# Altium footprint library C SMD .PcbLib: 37 footprints (part 1 of 3)
Each footprint in its own frame and in the unit in brackets; x right, y up, seen from the top. Pads: shape width x height; smd on the part's side, far side on the other; paste and mask are expansions set on the pad; w line width, h text height; cw(c..) or ccw(c..) is an arc to the next point about the centre after c.
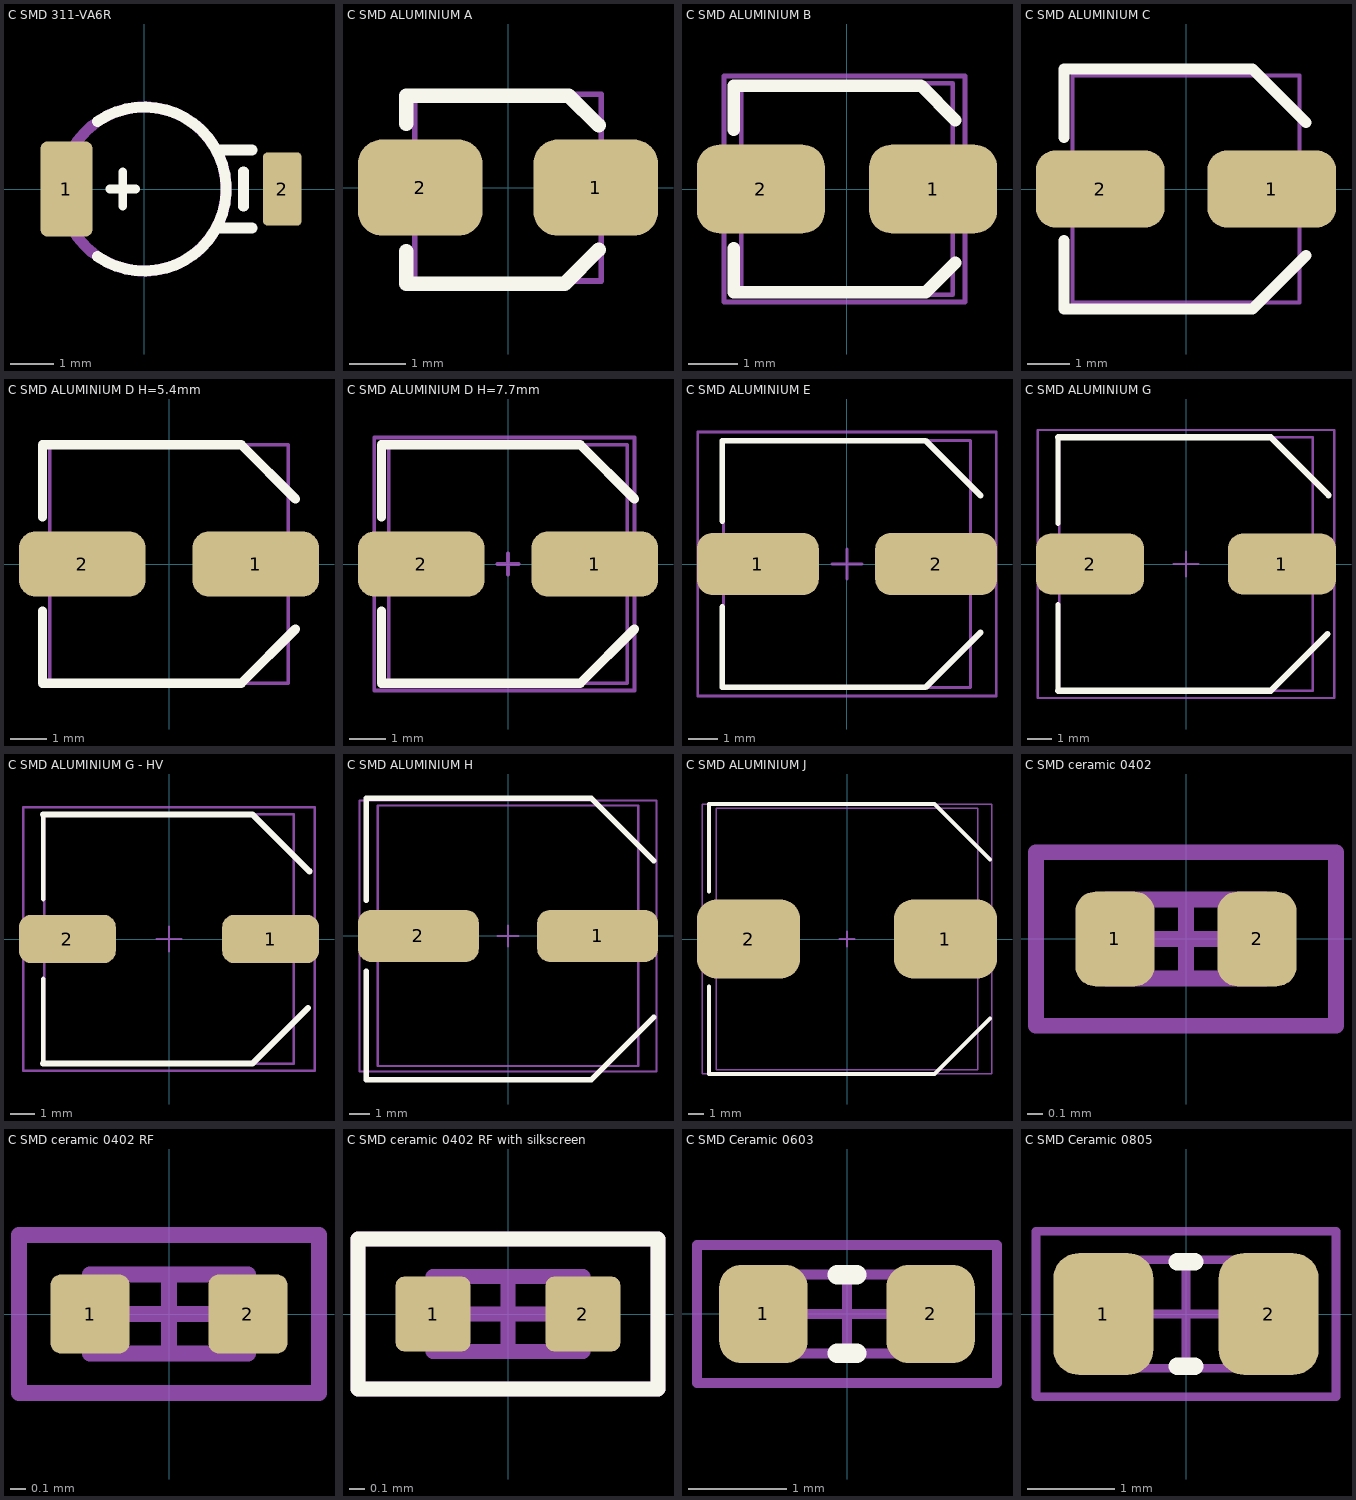
[diagram p0: the footprints below, top view; thin cyan lines are the x and y axes]

## C SMD 311-VA6R [mm] "Super Capacitor"
height 1.45
pads (2):
  rrect25% 1.2x2.2 smd: 1(-1.8,0)
  rrect25% 0.9x1.7 smd: 2(3.2,0)
Top Overlay:
  lines w0.2: -0.8,0 -0.2,0 ; -0.5,-0.4 -0.5,0 -0.5,0.4
  lines w0.254: -1.076,-1.566 ccw(c0,0) -1.076,1.566 ; 1.7,-0.9 2.5,-0.9 ; 1.7,0.9 2.5,0.9 ; 2.3,-0.4 2.3,0.4
Mechanical 15:
  circle w0.254: c0,0 r1.9
3D body: height 1.5, standoff 0, extent -2.2,-1.9 3.5,1.9

## C SMD ALUMINIUM A [mm] "Chip Capacitor, 2-Leads, Body 3,3x3,3mm"
height 5.4
pads (2):
  rrect50% 2.2x1.7 smd: 1(1.55,0) 2(-1.55,0)
Top Overlay:
  lines w0.254: -1.8,-1.125 -1.8,-1.7 1,-1.7 1.6,-1.1 ; -1.8,1.125 -1.8,1.625 1.075,1.625 ; 1.6,1.1 1.075,1.625 ; 1.075,1.625 1,1.625 1.075,1.625
Mechanical 13:
  lines w0.1: -1.65,-1.65 1.65,-1.65 1.65,1.65 -1.65,1.65 -1.65,-1.65
3D body: height 5.4, standoff 0, extent -1.8,-1.7 1.8,1.6

## C SMD ALUMINIUM B [mm] "Chip Capacitor, 2-Leads, Body 4,3x4,3mm"
height 6
pads (2):
  rrect50% 2.6x1.8 smd: 1(1.75,0) 2(-1.75,0)
Top Overlay:
  lines w0.254: -2.3,-1.2 -2.3,-2.1 1.6,-2.1 2.2,-1.5 ; -2.3,1.2 -2.3,2.1 1.5,2.1 2.2,1.4
Mechanical 13:
  lines w0.1: -2.15,-2.15 -2.15,2.15 2.15,2.15 2.15,-2.15 -2.15,-2.15
Mechanical 15:
  lines w0.1: -2.5,-2.3 2.4,-2.3 2.4,2.3 -2.5,2.3 -2.5,-2.3
3D body: height 5.4, standoff 0, extent -2.3,-2.15 2.3,2.15

## C SMD ALUMINIUM C [mm] "Chip Capacitor, 2-Leads, Body 5x5mm"
height 6
pads (2):
  rrect50% 3x1.8 smd: 1(2,0) 2(-2,0)
Top Overlay:
  lines w0.254: -2.85,-1.2 -2.85,-2.8 1.55,-2.8 2.8,-1.55 ; -2.85,1.2 -2.85,2.8 1.55,2.8 2.8,1.55
Mechanical 13:
  lines w0.1: -2.65,-2.65 -2.65,2.65 2.65,2.65 2.65,-2.65 -2.65,-2.65
3D body: height 5.41, standoff 0, extent -2.975,-2.65 2.925,2.65

## C SMD ALUMINIUM D H=5.4mm [mm] "Chip Capacitor, 2-Leads, Body 6.3x6.3mm"
height 5.4
pads (2):
  rrect50% 3.5x1.8 smd: 1(2.4,0) 2(-2.4,0)
Top Overlay:
  lines w0.254: -3.5,-1.3 -3.5,-3.3 2,-3.3 3.5,-1.8 ; -3.5,1.3 -3.5,3.3 2,3.3 3.5,1.8
Mechanical 13:
  lines w0.1: -3.3,-3.3 -3.3,3.3 3.3,3.3 3.3,-3.3 -3.3,-3.3
3D body: height 5.4, standoff 0, extent -3.5,-3.3 3.5,3.3

## C SMD ALUMINIUM D H=7.7mm [mm] "Chip Capacitor, 2-Leads, Body 6.3x6.3mm"
height 7.7
pads (2):
  rrect50% 3.5x1.8 smd: 1(2.4,0) 2(-2.4,0)
Top Overlay:
  lines w0.254: -3.5,-1.3 -3.5,-3.3 2,-3.3 3.5,-1.8 ; -3.5,1.3 -3.5,3.3 2,3.3 3.5,1.8
Mechanical 13:
  lines w0.1: -3.3,-3.3 -3.3,3.3 3.3,3.3 3.3,-3.3 -3.3,-3.3
Mechanical 15:
  lines w0.1: -0.3,0 0.3,0 ; 0,-0.3 0,0.3 ; -3.7,-3.5 -3.7,3.5 3.5,3.5 3.5,-3.5 -3.7,-3.5
3D body: height 7.7, standoff 0, extent -3.6,-3.3 3.4,3.3

## C SMD ALUMINIUM E [mm] "Chip Capacitor, 2-Leads, Body 8x8mm"
height 10.2
pads (2):
  rrect50% 4.1x2.1 smd: 1(-3,0) 2(3,0)
Top Overlay:
  lines w0.2: -4.2,-1.45 -4.2,-4.15 2.65,-4.15 4.5,-2.3 ; -4.2,1.45 -4.2,4.15 2.65,4.15 4.5,2.3
Mechanical 13:
  lines w0.1: -4.15,-4.15 4.15,-4.15 4.15,4.15 -4.15,4.15 -4.15,-4.15
Mechanical 15:
  lines w0.1: -0.5,0 0.5,0 ; 0,-0.5 0,0.5 ; -5.025,-4.45 5.025,-4.45 5.025,4.45 -5.025,4.45 -5.025,-4.45
3D body: height 6.2, standoff 0, extent -4.5,-4.2 4.5,4.1

## C SMD ALUMINIUM G [mm] "Chip Capacitor, 2-Leads, Body 10X10mm"
height 10.2
pads (2):
  rrect50% 4.4x2.5 smd: 1(3.9,0) 2(-3.9,0)
Top Overlay:
  lines w0.2: -5.2,-5.15 -5.2,-1.65 ; -5.2,1.65 -5.2,5.15
  lines w0.254: -5.2,-5.15 3.45,-5.15 5.75,-2.85 ; -5.2,5.15 3.45,5.15 5.8,2.8
Mechanical 13:
  lines w0.1: -5.15,-5.15 -5.15,5.15 5.15,5.15 5.15,-5.15 -5.15,-5.15
Mechanical 15:
  lines w0.1: -0.5,0 0.5,0 ; 0,-0.5 0,0.5 ; -6.025,-5.45 -6.025,5.45 6.025,5.45 6.025,-5.45 -6.025,-5.45
3D body: height 10.2, standoff 0, extent -5.8,-5.2 5.8,5.1

## C SMD ALUMINIUM G - HV [mm] "Chip Capacitor, 2-Leads, Body 10X10mm"
height 5.7
pads (2):
  rrect50% 4x2 smd: 1(4.2,0) 2(-4.2,0)
Top Overlay:
  lines w0.2: -5.2,-5.15 -5.2,-1.65 ; -5.2,1.65 -5.2,5.15
  lines w0.254: -5.2,-5.15 3.45,-5.15 5.75,-2.85 ; -5.2,5.15 3.45,5.15 5.8,2.8
Mechanical 13:
  lines w0.1: -5.15,-5.15 -5.15,5.15 5.15,5.15 5.15,-5.15 -5.15,-5.15
Mechanical 15:
  lines w0.1: -0.5,0 0.5,0 ; 0,-0.5 0,0.5 ; -6.025,-5.45 -6.025,5.45 6.025,5.45 6.025,-5.45 -6.025,-5.45
3D body: height 5.2, standoff 0, extent -5.8,-5.2 5.8,5.1

## C SMD ALUMINIUM H [mm] "Chip Capacitor, 2-Leads, Body 12.5x12.5mm"
height 13.5
pads (2):
  rrect50% 5.8x2.5 smd: 1(4.3,0) 2(-4.3,0)
Top Overlay:
  lines w0.254: -6.8,-1.7 -6.8,-6.9 4,-6.9 7,-3.9 ; -6.8,1.7 -6.8,6.6 4,6.6 7,3.6
Mechanical 13:
  lines w0.1: -6.25,-6.25 -6.25,6.25 6.25,6.25 6.25,-6.25 -6.25,-6.25
Mechanical 15:
  lines w0.1: -0.5,0 0.5,0 ; 0,-0.5 0,0.5 ; -7.125,-6.5 -7.125,6.5 7.125,6.5 7.125,-6.5 -7.125,-6.5
3D body: height 13.6, standoff 0.09, extent -6.8,-6.9 7,6.6

## C SMD ALUMINIUM J [mm] "Chip Capacitor, 2-Leads, Body 16x16mm"
height 16.5
pads (2):
  rrect50% 6.5x5 smd: 1(6.2,0) 2(-6.2,0)
Top Overlay:
  lines w0.254: -8.7,-3 -8.7,-8.5 5.5,-8.5 9,-5 ; -8.7,3 -8.7,8.5 5.5,8.5 9,5
Mechanical 13:
  lines w0.1: -8.25,-8.25 -8.25,8.25 8.25,8.25 8.25,-8.25 -8.25,-8.25
Mechanical 15:
  lines w0.1: -0.5,0 0.5,0 ; 0,-0.5 0,0.5 ; -9.125,-8.5 -9.125,8.5 9.125,8.5 9.125,-8.5 -9.125,-8.5
3D body: height 16.6, standoff 0.09, extent -8.65,-8.5 9.05,8.5

## C SMD ceramic 0402 [mm] "Chip Capacitor, 2-Leads, Body 1,0x0,5mm"
height 0.5
pads (2):
  rrect50% 0.5x0.6 smd: 1(-0.45,0) 2(0.45,0)
Mechanical 13:
  lines w0.1: -0.5,-0.25 -0.5,0.25 0.5,0.25 0.5,-0.25 -0.5,-0.25
Mechanical 15:
  lines w0.1: -0.25,0 0.25,0 ; 0,-0.25 0,0.25 ; -0.95,-0.55 -0.95,0.55 0.95,0.55 0.95,-0.55 -0.95,-0.55
3D body: height 0.51, standoff 0, extent -0.508,-0.254 0.508,0.254

## C SMD ceramic 0402 RF [mm] "Chip Capacitor, 2-Leads, Body 1,0x0,5mm"
height 0.5
pads (2):
  rrect25% 0.5x0.5 smd: 1(-0.5,0) 2(0.5,0)
Mechanical 13:
  lines w0.1: -0.5,-0.25 -0.5,0.25 0.5,0.25 0.5,-0.25 -0.5,-0.25
Mechanical 15:
  lines w0.1: -0.25,0 0.25,0 ; 0,-0.25 0,0.25 ; -0.95,-0.5 -0.95,0.5 0.95,0.5 0.95,-0.5 -0.95,-0.5
3D body: height 0.51, standoff 0, extent -0.508,-0.254 0.508,0.254

## C SMD ceramic 0402 RF with silkscreen [mm] "Chip Capacitor, 2-Leads, Body 1,0x0,5mm"
height 0.5
pads (2):
  rrect25% 0.5x0.5 smd: 1(-0.5,0) 2(0.5,0)
Top Overlay:
  lines w0.1: -1,-0.5 1,-0.5 1,0.5 -1,0.5 -1,-0.5
Mechanical 13:
  lines w0.1: -0.5,-0.25 0.5,-0.25 0.5,0.25 -0.5,0.25 -0.5,-0.25
Mechanical 15:
  lines w0.1: -0.25,0 0.25,0 ; 0,-0.25 0,0.25 ; -1,-0.5 1,-0.5 1,0.5 -1,0.5 -1,-0.5
3D body: height 0.51, standoff 0, extent -0.508,-0.254 0.508,0.254

## C SMD Ceramic 0603 [mm] "Chip Capacitor, 2-Leads, Body 1,6x0,8mm"
height 0.5
pads (2):
  rrect50% 0.9x1 smd: 1(-0.85,0) 2(0.85,0)
Top Overlay:
  lines w0.2: -0.1,-0.4 0.1,-0.4 ; -0.1,0.4 0.1,0.4
Mechanical 13:
  lines w0.1: -0.8,-0.4 -0.8,0.4 0.8,0.4 0.8,-0.4 -0.8,-0.4
Mechanical 15:
  lines w0.1: -0.4,0 0.4,0 ; 0,-0.4 0,0.4 ; -1.525,-0.7 -1.525,0.7 1.525,0.7 1.525,-0.7 -1.525,-0.7
3D body: height 0.79, standoff 0, extent -1,-0.394 1,0.394

## C SMD Ceramic 0805 [mm] "Chip Capacitor, 2-Leads, Body 2,0x1,3mm"
height 0.5
pads (2):
  rrect50% 1.15x1.4 smd: 1(-0.95,0) 2(0.95,0)
Top Overlay:
  lines w0.2: -0.1,-0.6 0.1,-0.6 ; -0.1,0.6 0.1,0.6
Mechanical 13:
  lines w0.1: -1,-0.625 1,-0.625 1,0.625 -1,0.625 -1,-0.625
Mechanical 15:
  lines w0.1: -0.5,0 0.5,0 ; 0,-0.5 0,0.5 ; -1.725,-0.95 1.725,-0.95 1.725,0.95 -1.725,0.95 -1.725,-0.95
3D body: height 0.79, standoff 0, extent -1.254,-0.622 1.254,0.622